# Altium footprint library IC_SMD_BGA.PCBLIB: 109 footprints (part 14 of 14)
Each footprint in its own frame and in the unit in brackets; x right, y up, seen from the top. Pads: shape width x height; smd on the part's side, far side on the other; paste and mask are expansions set on the pad; w line width, h text height; cw(c..) or ccw(c..) is an arc to the next point about the centre after c.
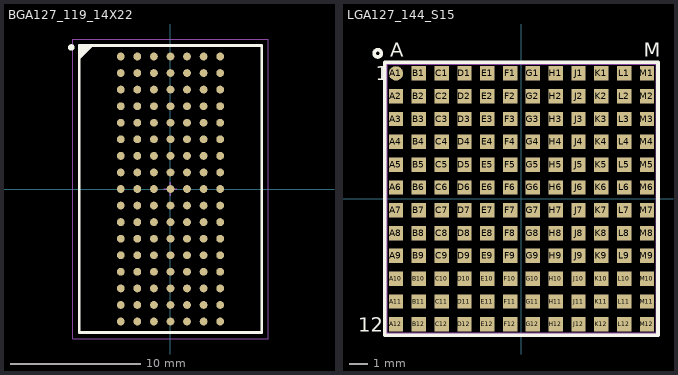
[diagram p13: the footprints below, top view; thin cyan lines are the x and y axes]

## BGA127_119_14X22 [mm] "BGA, 119-Balls, Body 22x14mm, Pitch 1.27mm"
height 3.5
pads (119):
  round 0.6 smd mask+0.075: A1(-3.81,10.16) A2(-2.54,10.16) A3(-1.27,10.16) A4(0,10.16) A5(1.27,10.16) A6(2.54,10.16) A7(3.81,10.16) B1(-3.81,8.89) B2(-2.54,8.89) B3(-1.27,8.89) B4(0,8.89) B5(1.27,8.89) B6(2.54,8.89) B7(3.81,8.89) C1(-3.81,7.62) C2(-2.54,7.62) C3(-1.27,7.62) C4(0,7.62) C5(1.27,7.62) C6(2.54,7.62) C7(3.81,7.62) D1(-3.81,6.35) D2(-2.54,6.35) D3(-1.27,6.35) D4(0,6.35) D5(1.27,6.35) D6(2.54,6.35) D7(3.81,6.35) E1(-3.81,5.08) E2(-2.54,5.08) E3(-1.27,5.08) E4(0,5.08) E5(1.27,5.08) E6(2.54,5.08) E7(3.81,5.08) F1(-3.81,3.81) F2(-2.54,3.81) F3(-1.27,3.81) F4(0,3.81) F5(1.27,3.81) F6(2.54,3.81) F7(3.81,3.81) G1(-3.81,2.54) G2(-2.54,2.54) G3(-1.27,2.54) G4(0,2.54) G5(1.27,2.54) G6(2.54,2.54) G7(3.81,2.54) H1(-3.81,1.27) H2(-2.54,1.27) H3(-1.27,1.27) H4(0,1.27) H5(1.27,1.27) H6(2.54,1.27) H7(3.81,1.27) J1(-3.81,0) J2(-2.54,0) J3(-1.27,0) J4(0,0) J5(1.27,0) J6(2.54,0) J7(3.81,0) K1(-3.81,-1.27) K2(-2.54,-1.27) K3(-1.27,-1.27) K4(0,-1.27) K5(1.27,-1.27) K6(2.54,-1.27) K7(3.81,-1.27) L1(-3.81,-2.54) L2(-2.54,-2.54) L3(-1.27,-2.54) L4(0,-2.54) L5(1.27,-2.54) L6(2.54,-2.54) L7(3.81,-2.54) M1(-3.81,-3.81) M2(-2.54,-3.81) M3(-1.27,-3.81) M4(0,-3.81) M5(1.27,-3.81) M6(2.54,-3.81) M7(3.81,-3.81) N1(-3.81,-5.08) N2(-2.54,-5.08) N3(-1.27,-5.08) N4(0,-5.08) N5(1.27,-5.08) N6(2.54,-5.08) N7(3.81,-5.08) P1(-3.81,-6.35) P2(-2.54,-6.35) P3(-1.27,-6.35) P4(0,-6.35) P5(1.27,-6.35) P6(2.54,-6.35) P7(3.81,-6.35) R1(-3.81,-7.62) R2(-2.54,-7.62) R3(-1.27,-7.62) R4(0,-7.62) R5(1.27,-7.62) R6(2.54,-7.62) R7(3.81,-7.62) T1(-3.81,-8.89) T2(-2.54,-8.89) T3(-1.27,-8.89) T4(0,-8.89) T5(1.27,-8.89) T6(2.54,-8.89) T7(3.81,-8.89) U1(-3.81,-10.16) U2(-2.54,-10.16) U3(-1.27,-10.16) U4(0,-10.16) U5(1.27,-10.16) U6(2.54,-10.16) U7(3.81,-10.16)
TopOverlay:
  circle w0.25: c-7.6,10.85 r0.125
  region: -6,11 -7,10 -7,11
  lines w0.2: -7,10 -6,11 ; -7,-11 7,-11 7,11 -7,11 -7,-11
Mechanical13:
  lines w0.1: -7,-11 7,-11 7,11 -7,11 -7,-11
Mechanical15:
  lines w0.05: -7.5,-11.5 7.5,-11.5 7.5,11.5 -7.5,11.5 -7.5,-11.5
  lines w0.1: -0.5,0 0.5,0 ; 0,-0.5 0,0.5
3D body: height 3.5, standoff 0.5, extent -7,-11 7,11

## LGA127_144_S15 [mm] "LGA 144-Lead (15mm × 15mm × 4.41mm)"
height 4.5
pads (144):
  round 0.8 smd mask-0.1: A1(-6.985,6.985)
  rect 0.8x0.8 smd mask-0.1: A2(-6.985,5.715) A3(-6.985,4.445) A4(-6.985,3.175) A5(-6.985,1.905) A6(-6.985,0.635) A7(-6.985,-0.635) A8(-6.985,-1.905) A9(-6.985,-3.175) A10(-6.985,-4.445) A11(-6.985,-5.715) A12(-6.985,-6.985) B1(-5.715,6.985) B2(-5.715,5.715) B3(-5.715,4.445) B4(-5.715,3.175) B5(-5.715,1.905) B6(-5.715,0.635) B7(-5.715,-0.635) B8(-5.715,-1.905) B9(-5.715,-3.175) B10(-5.715,-4.445) B11(-5.715,-5.715) B12(-5.715,-6.985) C1(-4.445,6.985) C2(-4.445,5.715) C3(-4.445,4.445) C4(-4.445,3.175) C5(-4.445,1.905) C6(-4.445,0.635) C7(-4.445,-0.635) C8(-4.445,-1.905) C9(-4.445,-3.175) C10(-4.445,-4.445) C11(-4.445,-5.715) C12(-4.445,-6.985) D1(-3.175,6.985) D2(-3.175,5.715) D3(-3.175,4.445) D4(-3.175,3.175) D5(-3.175,1.905) D6(-3.175,0.635) D7(-3.175,-0.635) D8(-3.175,-1.905) D9(-3.175,-3.175) D10(-3.175,-4.445) D11(-3.175,-5.715) D12(-3.175,-6.985) E1(-1.905,6.985) E2(-1.905,5.715) E3(-1.905,4.445) E4(-1.905,3.175) E5(-1.905,1.905) E6(-1.905,0.635) E7(-1.905,-0.635) E8(-1.905,-1.905) E9(-1.905,-3.175) E10(-1.905,-4.445) E11(-1.905,-5.715) E12(-1.905,-6.985) F1(-0.635,6.985) F2(-0.635,5.715) F3(-0.635,4.445) F4(-0.635,3.175) F5(-0.635,1.905) F6(-0.635,0.635) F7(-0.635,-0.635) F8(-0.635,-1.905) F9(-0.635,-3.175) F10(-0.635,-4.445) F11(-0.635,-5.715) F12(-0.635,-6.985) G1(0.635,6.985) G2(0.635,5.715) G3(0.635,4.445) G4(0.635,3.175) G5(0.635,1.905) G6(0.635,0.635) G7(0.635,-0.635) G8(0.635,-1.905) G9(0.635,-3.175) G10(0.635,-4.445) G11(0.635,-5.715) G12(0.635,-6.985) H1(1.905,6.985) H2(1.905,5.715) H3(1.905,4.445) H4(1.905,3.175) H5(1.905,1.905) H6(1.905,0.635) H7(1.905,-0.635) H8(1.905,-1.905) H9(1.905,-3.175) H10(1.905,-4.445) H11(1.905,-5.715) H12(1.905,-6.985) J1(3.175,6.985) J2(3.175,5.715) J3(3.175,4.445) J4(3.175,3.175) J5(3.175,1.905) J6(3.175,0.635) J7(3.175,-0.635) J8(3.175,-1.905) J9(3.175,-3.175) J10(3.175,-4.445) J11(3.175,-5.715) J12(3.175,-6.985) K1(4.445,6.985) K2(4.445,5.715) K3(4.445,4.445) K4(4.445,3.175) K5(4.445,1.905) K6(4.445,0.635) K7(4.445,-0.635) K8(4.445,-1.905) K9(4.445,-3.175) K10(4.445,-4.445) K11(4.445,-5.715) K12(4.445,-6.985) L1(5.715,6.985) L2(5.715,5.715) L3(5.715,4.445) L4(5.715,3.175) L5(5.715,1.905) L6(5.715,0.635) L7(5.715,-0.635) L8(5.715,-1.905) L9(5.715,-3.175) L10(5.715,-4.445) L11(5.715,-5.715) L12(5.715,-6.985) M1(6.985,6.985) M2(6.985,5.715) M3(6.985,4.445) M4(6.985,3.175) M5(6.985,1.905) M6(6.985,0.635) M7(6.985,-0.635) M8(6.985,-1.905) M9(6.985,-3.175) M10(6.985,-4.445) M11(6.985,-5.715) M12(6.985,-6.985)
TopOverlay:
  circle w0.2: c-8,8.1 r0.2
  lines w0.2: -7.6,-7.6 -7.6,7.6 7.6,7.6 7.6,-7.6 -7.6,-7.6
  text "M" at 6.8,7.9 h0.8
  text "A" at -7.3,7.9 h0.8
  text "12" at -9.1,-7.4 h0.8
  text "1" at -8.1,6.6 h0.8
Mechanical13:
  lines w0.1: -7.5,-7.5 -7.5,7.5 7.5,7.5 7.5,-7.5 -7.5,-7.5
  text "1" at -8.3,6.9 h0.8
3D body: height 4.5, standoff 0, extent -7.5,-7.5 7.5,7.5